# EAGLE library part 61900611121 (library WR-WTB)
WR-WTB 2.54 mm Male Locking Header Material Properties Insulator Material Nylon 66; PA66 Insulator Flammability Rating UL94 V-0 Insulator Color Beige Color Beige Contact Material Copper Alloy Contact Plating Tin Contact Type Stamped Certification UL Approval E323964 General Information Operating Temperature -40 °C up to +105 °C Compliance RoHS IR 3 A Working Voltage 250 V (AC) Withstanding Voltage 1000 V (AC) Contact Resistance 20 mΩ RISO 1000 MΩ Pitch 2.54 mm Gender Male Type Vertical Packaging Properties Packaging Bag Details see: www.we-online.com/en/components/products/WTB_2_54_MALE_LOCKING_HEADER_6190XX11121 Updated by Ella 2025-03-06 2025 (C) Würth Elektronik
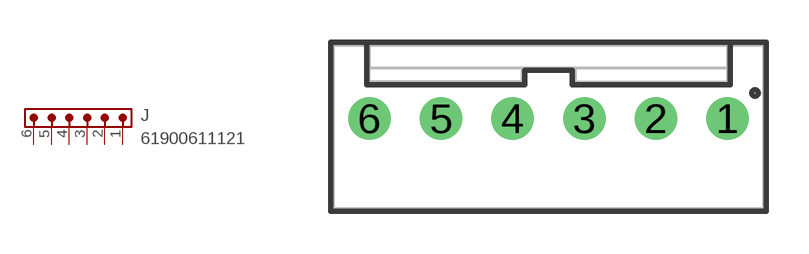
[diagram p83: symbol with the pads of 61900611121; footprint 61900611121]

Designator prefix J

## 61900611121 (CONTACT-RESISTANCE: 20mOhm; DATASHEET: https://www.we-online.com/redexpert/spec/61900611121?ae; GENDER: Male; IR: 3A; L: 15.24mm; MOUNT: THT; PACKAGING: Bag; PART-NUMBER: 61900611121; PCB-CABLE-PANEL: PCB; PINS: 6; PITCH: 2.54mm; TYPE: Vertical; VALUE: 61900611121; WORKING-VOLTAGE: 250V(AC))  [61900611121]
1  1  pas
2  2  pas
3  3  pas
4  4  pas
5  5  pas
6  6  pas

## Footprint 61900611121 (pad centres in mm)
WR-WTB 2.54 mm Male Header Vertical , THT, 6pins LXWXH=15.24X5.8X11.5mm
drill 1: 1 6.35,0.3; 2 3.81,0.3; 3 1.27,0.3; 4 -1.27,0.3; 5 -3.81,0.3; 6 -6.35,0.3